# EAGLE library part TPS544X20 (library texas-tps544x20)
Features PMBus-Enabled Converters: 20 A, 30 A *4.5-V to 18-V input, 0.6-V to 5.5-V Output * 5 mm × 7 mm LQFN Package with 0.5-mm Pitch *Single Thermal Pad *Integrated 4.5-mΩ and 2.0-mΩ Stacked NexFET Power Stage *600-mV, 0.5% Reference * Lossless, Low-Side MOSFET Current Sensing * Selectable D-CAP and D-CAP2 Mode Control * Differential Remote Sensing * Monotonic Start-Up into Pre-Biased Output *Output Voltage Margin and Trim * Output Voltage and Output Current Reporting * External Temperature Monitoring with 2N3904 *Thermal Shutdown *Pin Compatible 20-A, 30-A Converters The library has been designed by Richard Magdycz <https://www.facebook.com/groups/eaglecadsoftUK>
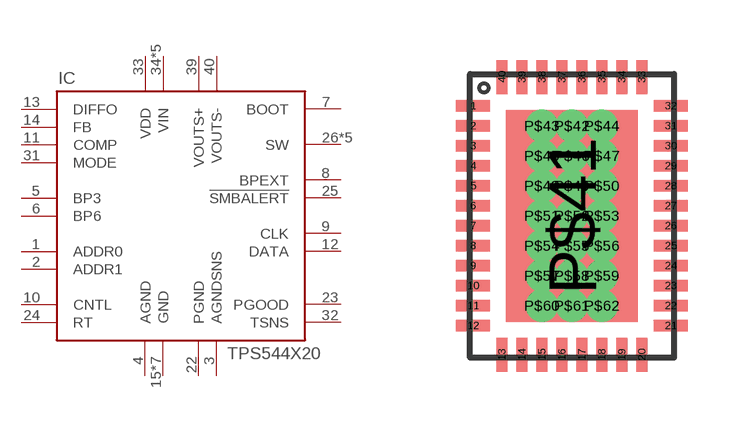
[diagram p0: symbol with the pads of R-PLQFN-N40; footprint R-PLQFN-N40]

Designator prefix IC

## TPS544X20  [R-PLQFN-N40]
1  ADDR0
2  ADDR1
3  AGNDSNS  pwr
4  AGND  pwr
5  BP3  out
6  BP6  out
7  BOOT
8  BPEXT  in
9  CLK  in
10  CNTL  in
11  COMP  out
12  DATA
13  DIFFO  out
14  FB  in
15  GND  pwr
16  GND  pwr
17  GND  pwr
18  GND  pwr
19  GND  pwr
20  GND  pwr
21  GND  pwr
22  PGND  pwr
23  PGOOD  out
24  RT  out
25  !SMBALERT  out
26  SW  out
27  SW  out
28  SW  out
29  SW  out
30  SW  out
31  MODE  in
32  TSNS  out
33  VDD  in
34  VIN  in
35  VIN  in
36  VIN  in
37  VIN  in
38  VIN  in
39  VOUTS+  in
40  VOUTS-  in

## Footprint R-PLQFN-N40 (pad centres in mm)
smd 0.85 x 0.28: 1 -2.47,2.75; 2 -2.47,2.25; 3 -2.47,1.75; 4 -2.47,1.25; 5 -2.47,0.75; 6 -2.47,0.25; 7 -2.47,-0.25; 8 -2.47,-0.75; 9 -2.47,-1.25; 10 -2.47,-1.75; 11 -2.47,-2.25; 12 -2.47,-2.75; 21 2.475,-2.75; 22 2.475,-2.25; 23 2.475,-1.75; 24 2.475,-1.25; 25 2.475,-0.75; 26 2.475,-0.25; 27 2.475,0.25; 28 2.475,0.75; 29 2.475,1.25; 30 2.475,1.75; 31 2.475,2.25; 32 2.475,2.75
smd 0.28 x 0.85: 13 -1.75,-3.475; 14 -1.25,-3.475; 15 -0.75,-3.475; 16 -0.25,-3.475; 17 0.25,-3.475; 18 0.75,-3.475; 19 1.25,-3.475; 20 1.75,-3.475; 33 1.75,3.475; 34 1.25,3.475; 35 0.75,3.475; 36 0.25,3.475; 37 -0.25,3.475; 38 -0.75,3.475; 39 -1.25,3.475; 40 -1.75,3.475
smd 3.3 x 5.3: P$41 0,0
drill 0.3 pad 0.406: P$42 0,2.25; P$43 -0.75,2.25; P$44 0.75,2.25; P$45 -0.75,1.5; P$46 0,1.5; P$47 0.75,1.5; P$48 -0.75,0.75; P$49 0,0.75; P$50 0.75,0.75; P$51 -0.75,0; P$52 0,0; P$53 0.75,0; P$54 -0.75,-0.75; P$55 0,-0.75; P$56 0.75,-0.75; P$57 -0.75,-1.5; P$58 0,-1.5; P$59 0.75,-1.5; P$60 -0.75,-2.25; P$61 0,-2.25; P$62 0.75,-2.25